# EAGLE library part BMP280 (library Sensors > Temperature Sensors)
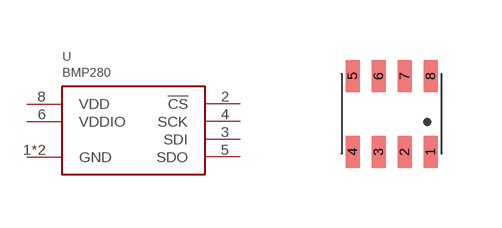
[diagram p2: symbol with the pads of BMP280; footprint BMP280]

Designator prefix U

## BMP280  [BMP280]
1  GND  pwr
2  !CS  in
3  SDI
4  SCK
5  SDO  in
6  VDDIO  pwr
7  GND  pwr
8  VDD  pwr

## Footprint BMP280 (pad centres in mm)
2.5 mm x 2.5 mm x 0.93 mm metal lid LGA
smd 0.35 x 0.8: 1 0.975,-0.95; 2 0.325,-0.95; 3 -0.325,-0.95; 4 -0.975,-0.95; 5 -0.975,0.95; 6 -0.325,0.95; 7 0.325,0.95; 8 0.975,0.95